# EAGLE library part HXR060ST (library con-thomas-betts)
THOMAS&BETTS
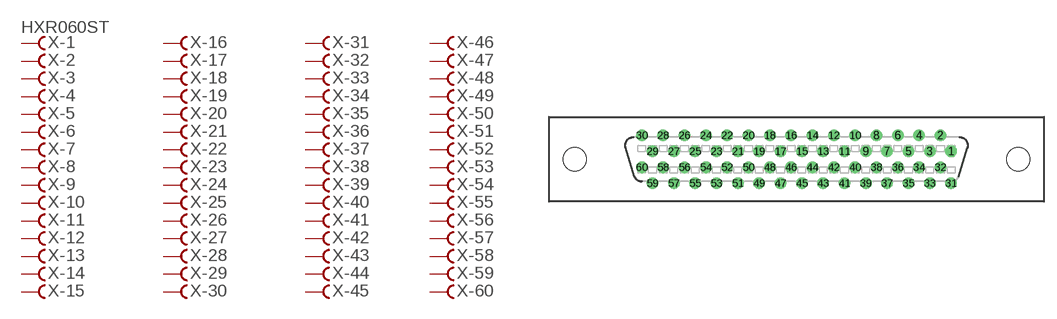
[diagram p16: symbol with the pads of HXR060ST; footprint HXR060ST]

Designator prefix X; gates -1=FV -2=F -3=F -4=F -5=F -6=F -7=F -8=F -9=F -10=F -11=F -12=F -13=F -14=F -15=F -16=F -17=F -18=F -19=F -20=F -21=F -22=F -23=F -24=F -25=F -26=F -27=F -28=F -29=F -30=F -31=F -32=F -33=F -34=F -35=F -36=F -37=F -38=F -39=F -40=F -41=F -42=F -43=F -44=F -45=F -46=F -47=F -48=F -49=F -50=F -51=F -52=F -53=F -54=F -55=F -56=F -57=F -58=F -59=F -60=F

## HXR060ST (OC_FARNELL: unknown; OC_NEWARK: unknown)  [HXR060ST]
1  -1:F  pas
2  -2:F  pas
3  -3:F  pas
4  -4:F  pas
5  -5:F  pas
6  -6:F  pas
7  -7:F  pas
8  -8:F  pas
9  -9:F  pas
10  -10:F  pas
11  -11:F  pas
12  -12:F  pas
13  -13:F  pas
14  -14:F  pas
15  -15:F  pas
16  -16:F  pas
17  -17:F  pas
18  -18:F  pas
19  -19:F  pas
20  -20:F  pas
21  -21:F  pas
22  -22:F  pas
23  -23:F  pas
24  -24:F  pas
25  -25:F  pas
26  -26:F  pas
27  -27:F  pas
28  -28:F  pas
29  -29:F  pas
30  -30:F  pas
31  -31:F  pas
32  -32:F  pas
33  -33:F  pas
34  -34:F  pas
35  -35:F  pas
36  -36:F  pas
37  -37:F  pas
38  -38:F  pas
39  -39:F  pas
40  -40:F  pas
41  -41:F  pas
42  -42:F  pas
43  -43:F  pas
44  -44:F  pas
45  -45:F  pas
46  -46:F  pas
47  -47:F  pas
48  -48:F  pas
49  -49:F  pas
50  -50:F  pas
51  -51:F  pas
52  -52:F  pas
53  -53:F  pas
54  -54:F  pas
55  -55:F  pas
56  -56:F  pas
57  -57:F  pas
58  -58:F  pas
59  -59:F  pas
60  -60:F  pas

## Footprint HXR060ST (pad centres in mm)
THOMAS&BETTS HFR060ST29xx, HHR060ST29xx
drill 0.864 octagon: 1 18.415,0.953
drill 0.864: 2 17.145,2.857; 3 15.875,0.953; 4 14.605,2.857; 5 13.335,0.953; 6 12.065,2.857; 7 10.795,0.953; 8 9.525,2.857; 9 8.255,0.953; 10 6.985,2.857; 11 5.715,0.953; 12 4.445,2.857; 13 3.175,0.953; 14 1.905,2.857; 15 0.635,0.953; 16 -0.635,2.857; 17 -1.905,0.953; 18 -3.175,2.857; 19 -4.445,0.953; 20 -5.715,2.857; 21 -6.985,0.953; 22 -8.255,2.857; 23 -9.525,0.953; 24 -10.795,2.857; 25 -12.065,0.953; 26 -13.335,2.857; 27 -14.605,0.953; 28 -15.875,2.857; 29 -17.145,0.953; 30 -18.415,2.857; 31 18.415,-2.857; 32 17.145,-0.953; 33 15.875,-2.857; 34 14.605,-0.953; 35 13.335,-2.857; 36 12.065,-0.953; 37 10.795,-2.857; 38 9.525,-0.953; 39 8.255,-2.857; 40 6.985,-0.953; 41 5.715,-2.857; 42 4.445,-0.953; 43 3.175,-2.857; 44 1.905,-0.953; 45 0.635,-2.857; 46 -0.635,-0.953; 47 -1.905,-2.857; 48 -3.175,-0.953; 49 -4.445,-2.857; 50 -5.715,-0.953; 51 -6.985,-2.857; 52 -8.255,-0.953; 53 -9.525,-2.857; 54 -10.795,-0.953; 55 -12.065,-2.857; 56 -13.335,-0.953; 57 -14.605,-2.857; 58 -15.875,-0.953; 59 -17.145,-2.857; 60 -18.415,-0.953
hole 2.769 at 26.416,0.013
hole 2.769 at -26.416,0.013